# Altium schematic symbol library M20-9730846.SchLib: 1 symbol
Pins are listed as number, name and electrical type; pins without a type are passive.

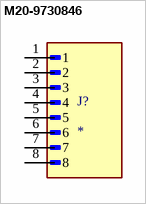
[diagram p0: symbol M20-9730846]

## M20-9730846
designator J?
MF: Harwin; MP: M20-9730846; Package: None; Price: None; Value: *; Availability: Unavailable
footprint HARWIN_M20-9730846
pins: 1, 2, 3, 4, 5, 6, 7, 8